# EAGLE library part BUTTONPAD-1X2 (library SKAARHOJ)
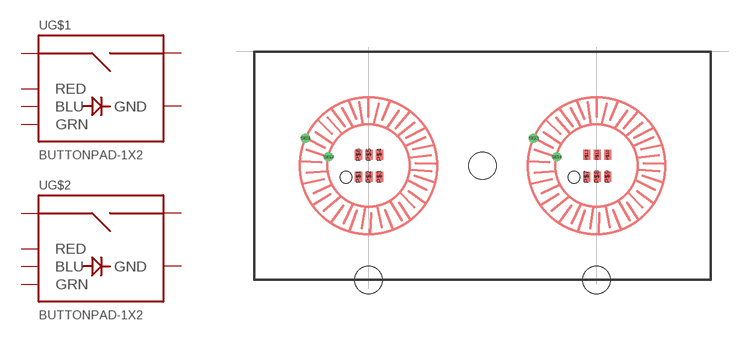
[diagram p84: symbol with the pads of BUTTONPAD-1X2; footprint BUTTONPAD-1X2]

Designator prefix -; gates G$1=BUTTONPAD_SINGLE G$2=BUTTONPAD_SINGLE

## BUTTONPAD-1X2  [BUTTONPAD-1X2]
P$1  G$1:GND
P$2  G$1:GND
P$3  G$1:GND
P$4  G$1:BLU
P$5  G$1:RED
P$6  G$1:GRN
P$7  G$2:GND
P$8  G$2:GND
P$9  G$2:GND
P$10  G$2:BLU
P$11  G$2:RED
P$12  G$2:GRN
SIG1  G$1:SIG1
SIG2  G$1:SIG2
SIG3  G$2:SIG1
SIG4  G$2:SIG2

## Footprint BUTTONPAD-1X2 (pad centres in mm)
smd 0.8 x 1.1: P$1 -13.58,-1.2; P$2 -12.43,-1.2; P$3 -11.28,-1.2; P$4 -11.28,1.2; P$5 -12.43,1.2; P$6 -13.58,1.2; P$7 11.42,-1.2; P$8 12.57,-1.2; P$9 13.72,-1.2; P$10 13.72,1.2; P$11 12.57,1.2; P$12 11.42,1.2
drill 0.508: SIG1 -19.412,3.013; SIG2 -16.872,0.981; SIG3 5.588,3.013; SIG4 8.128,0.981
hole 3 at -12.5,-12.5
hole 3 at 0,0
hole 3 at 12.5,-12.5